# EAGLE library part LT1910 (library myLib)
LT1910 Protected High Side MOSFET Driver
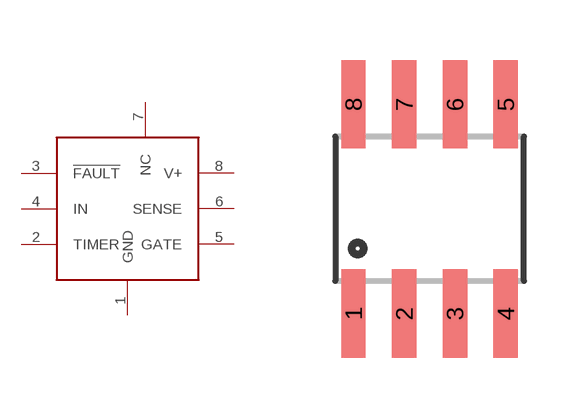
[diagram p24: symbol with the pads of SO08; footprint SO08]

Designator prefix -

## LT1910  [SO08]
1  GND
2  TIMER
3  !FAULT
4  IN
5  GATE
6  SENSE
7  NC
8  V+

## Footprint SO08 (pad centres in mm)
Small Outline Package Fits JEDEC packages (narrow SOIC-8)
smd 0.61 x 2.21: 1 -1.905,-2.616; 2 -0.635,-2.616; 3 0.635,-2.616; 4 1.905,-2.616; 5 1.905,2.616; 6 0.635,2.616; 7 -0.635,2.616; 8 -1.905,2.616